# EAGLE library part ATMEGA328_ (library NVSL)
ATmega328 8b microcontroller with 4,8,16,32K ISP Flash with a thermal pad underneath
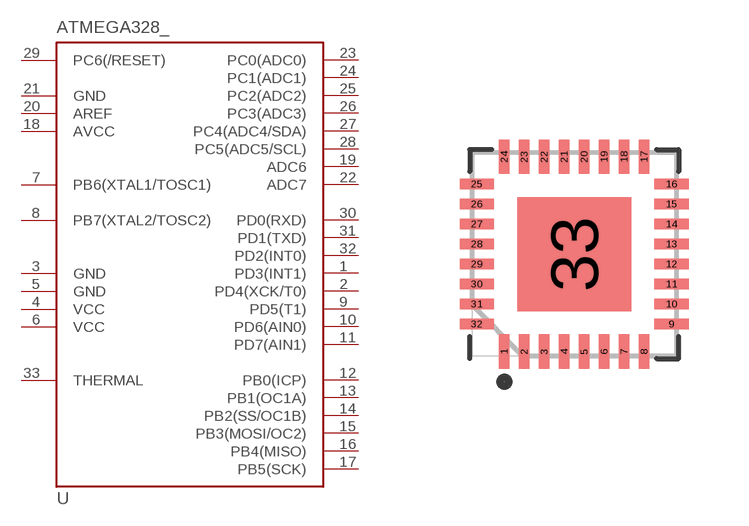
[diagram p7: symbol with the pads of QFN50P500X500X100-33T325X325HS; footprint QFN50P500X500X100-33T325X325HS]

Designator prefix -

## ATMEGA328_32MLF  [QFN50P500X500X100-33T325X325HS]
1  PD3(INT1)
2  PD4(XCK/T0)
3  GND  pwr
4  VCC  pwr
5  GND  pwr
6  VCC  pwr
7  PB6(XTAL1/TOSC1)
8  PB7(XTAL2/TOSC2)
9  PD5(T1)
10  PD6(AIN0)
11  PD7(AIN1)
12  PB0(ICP)
13  PB1(OC1A)
14  PB2(SS/OC1B)
15  PB3(MOSI/OC2)
16  PB4(MISO)
17  PB5(SCK)
18  AVCC  pwr
19  ADC6
20  AREF  pas
21  GND  pwr
22  ADC7
23  PC0(ADC0)
24  PC1(ADC1)
25  PC2(ADC2)
26  PC3(ADC3)
27  PC4(ADC4/SDA)
28  PC5(ADC5/SCL)
29  PC6(/RESET)
30  PD0(RXD)
31  PD1(TXD)
32  PD2(INT0)
33  THERMAL  pas

## Footprint QFN50P500X500X100-33T325X325HS (pad centres in mm)
smd 0.26 x 0.86: 1 -1.75,-2.435; 2 -1.25,-2.435; 3 -0.75,-2.435; 4 -0.25,-2.435; 5 0.25,-2.435; 6 0.75,-2.435; 7 1.25,-2.435; 8 1.75,-2.435; 17 1.75,2.435; 18 1.25,2.435; 19 0.75,2.435; 20 0.25,2.435; 21 -0.25,2.435; 22 -0.75,2.435; 23 -1.25,2.435; 24 -1.75,2.435
smd 0.86 x 0.26: 9 2.435,-1.75; 10 2.435,-1.25; 11 2.435,-0.75; 12 2.435,-0.25; 13 2.435,0.25; 14 2.435,0.75; 15 2.435,1.25; 16 2.435,1.75; 25 -2.435,1.75; 26 -2.435,1.25; 27 -2.435,0.75; 28 -2.435,0.25; 29 -2.435,-0.25; 30 -2.435,-0.75; 31 -2.435,-1.25; 32 -2.435,-1.75
smd 2.85 x 2.85: 33 0,0